# Altium schematic symbol library HK_SCHLIB.SchLib: 347 symbols (part 2 of 8)
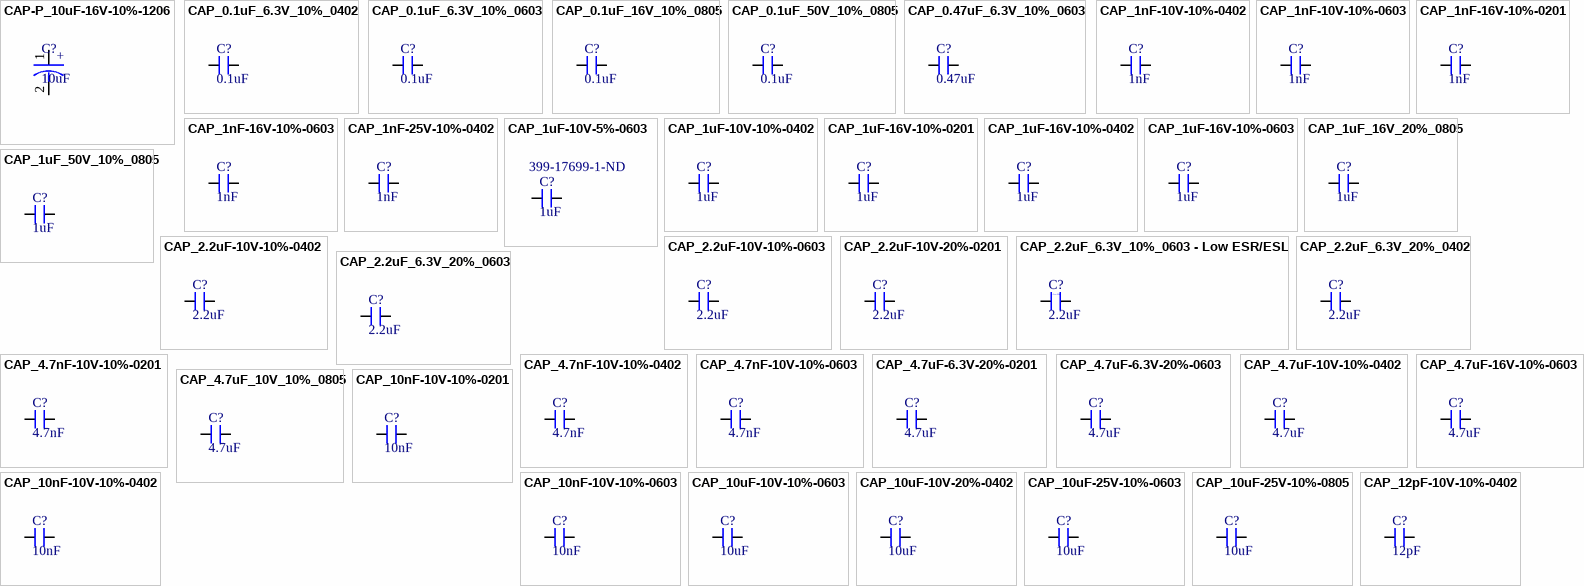
[diagram p16: symbols CAP-P_10uF-16V-10%-1206 to CAP_12pF-10V-10%-0402]

## CAP_2.2uF-10V-10%-0603
designator C?, comment 2.2uF
Multilayer Ceramic Capacitor, 2.2 uF, 16 V, ± 10%, X5R, 0603 [1608 Metric]; Manufacturer: KEMET; Manufacturer Part Number: C0603C225K4PACTU; Voltage Rating: 16V; Dissipation Factor: 5%; Case/Package: 0603; Supplier-1: Digikey; Supplier 1: Digi-Key; Manufacturer 1: KEMET; Manufacturer Part Number 1: C0603C225K4PACTU; RoHS: Yes; Category: Ceramic Capacitors; Stock 1: 107081; Pricing 1: 1=0.12, 10=0.086, 50=0.0488, 100=0.0405, 500=0.0284, 1000=0.02351 (USD); Mount: Surface Mount; Number of Pins: 2; Case Code (Imperial): 0603; Case Code (Metric): 1608; Dielectric Material: Ceramic; Min Operating Temperature: -55°C; Max Operating Temperature: 85°C; Capacitance: 2.2uF; Tolerance: 10%; Voltage Rating (DC): 16V; Packaging: Tape and Reel; Package Quantity: 1; Dielectric: X5R; Termination: SMD/SMT; Voltage: 16V; Series: C; Construction: Flat; Length: 1.6mm; Width: 0.031inch; Height: 0.8mm; Thickness: 0.034inch; Depth: 0.8mm; Radiation Hardening: No; Reach SVHC Compliant: No; Lead Free: Lead Free; RoHS Compliant: Yes; ComponentLink1URL: https://datasheet.ciiva.com/5969/1776083-5969304.pdf?src-supplier=Farnell; ComponentLink1Description: https://datasheet.ciiva.com/5969/1776083-5969304.pdf?src-supplier=Farnell; ComponentLink2URL: https://datasheet.ciiva.com/7823/1776083-7823706.pdf?src-supplier=Element14; ComponentLink2Description: https://datasheet.ciiva.com/7823/1776083-7823706.pdf?src-supplier=Element14
footprint CAP_0603 (Capacitor)
pins: 1, 2

## CAP_2.2uF-10V-20%-0201
designator C?, comment 2.2uF
Multilayer Ceramic Capacitor, 2.2 uF, 10 V, ± 20%, X5R, 0201 [0603 Metric]; Manufacturer: Murata Electronics; Manufacturer Part Number: GRM033R61A225ME47D; Manufacturer 1: Murata; Case/Package: 0201; Supplier-1: Digikey; Supplier 1: Digi-Key; Manufacturer Part Number 1: GRM033R61A225ME47D; RoHS: Yes; Category: Ceramic Capacitors; Stock 1: 1956457; Pricing 1: 1=0.24, 10=0.164, 50=0.0986, 100=0.0833, 500=0.05702, 1000=0.05044, 2500=0.04825, 5000=0.04386 (USD); ComponentLink1URL: https://datasheet.octopart.com/GRM033R61A225ME47D-Murata-datasheet-149522795.pdf?src-supplier=Newark; ComponentLink1Description: https://datasheet.octopart.com/GRM033R61A225ME47D-Murata-datasheet-149522795.pdf?src-supplier=Newark; ComponentLink2URL: http://search.murata.co.jp/Ceramy/image/img/A01X/G101/ENG/GRM033R61A225ME47-01.pdf?src-supplier=Digi-Key; ComponentLink2Description: http://search.murata.co.jp/Ceramy/image/img/A01X/G101/ENG/GRM033R61A225ME47-01.pdf?src-supplier=Digi-Key; ComponentLink3URL: https://www.murata.com/~/media/webrenewal/support/library/catalog/products/capacitor/mlcc/c02e.ashx?la=en-us&src-supplier=Digi-Key; ComponentLink3Description: https://www.murata.com/~/media/webrenewal/support/library/catalog/products/capacitor/mlcc/c02e.ashx?la=en-us&src-supplier=Digi-Key; ComponentLink4URL: https://datasheet.octopart.com/GRM033R61A225ME47D-Murata-datasheet-86568079.pdf?src-supplier=Future+Electronics; ComponentLink4Description: https://datasheet.octopart.com/GRM033R61A225ME47D-Murata-datasheet-86568079.pdf?src-supplier=Future+Electronics
footprint CAP_0201
pins: 1, 2

## CAP_2.2uF_6.3V_10%_0603 - Low ESR/ESL
designator C?, comment 2.2uF
Multilayer Ceramic Capacitor, 2.2 uF, 6.3 V, ± 10%, X7R, 0603 [1608 Metric]; Manufacturer: TDK; Manufacturer Part Number: CGA3E1X7R0J225K080AC; Voltage Rating: 6.3V; Supplier 1: Rs; RoHS: Yes; Category: Ceramic Capacitors; Stock 1: 1; Mount: Surface Mount; Case/Package: 0603; Case Code (Metric): 1608; Case Code (Imperial): 0603; Weight: 7.1E-05oz; Min Operating Temperature: -55°C; Max Operating Temperature: 125°C; Tolerance: 10%; Packaging: Tape and Reel; Capacitance: 2.2uF; Termination: SMD/SMT; Series: CGA; Voltage Rating (DC): 6.3V; Package Quantity: 1; Dielectric: X7R; Length: 1.6mm; Width: 0.031inch; Height: 0.8mm; Thickness: 0.035inch; Depth: 0.8mm; Ratings: AEC-Q200; Lead Free: Lead Free; Reach SVHC Compliant: No; RoHS Compliant: Yes; ComponentLink1URL: https://datasheet.ciiva.com/24219/cga3e1x7r0j225k080ac-265889-24219571.pdf?src-supplier=Mouser; ComponentLink1Description: https://datasheet.ciiva.com/24219/cga3e1x7r0j225k080ac-265889-24219571.pdf?src-supplier=Mouser; ComponentLink2URL: https://datasheet.ciiva.com/28576/1796654-28576764.pdf?src-supplier=Element14; ComponentLink2Description: https://datasheet.ciiva.com/28576/1796654-28576764.pdf?src-supplier=Element14; ComponentLink3URL: https://datasheet.ciiva.com/22718/1796654-22718047.pdf?src-supplier=Element14; ComponentLink3Description: https://datasheet.ciiva.com/22718/1796654-22718047.pdf?src-supplier=Element14; Supplier 2: Digi-Key; Manufacturer 2: TDK; Manufacturer Part Number 2: CGA3E1X7R0J225K080AC; Stock 2: 2496211; Pricing 2: 1=0.22, 10=0.152, 50=0.0908, 100=0.0768, 500=0.05252, 1000=0.04646 (USD)
footprint CAP_0603 (Chip Capacitor 0603, 2-Leads, Body 1.68x0.88mm, IPC Medium Density)
pins: 1, 2
text: Low ESR

## CAP_2.2uF_6.3V_20%_0402
designator C?, comment 2.2uF
Multilayer Ceramic Capacitor, 2.2 uF, 6.3 V, ± 20%, X5R, 0402 [1005 Metric]; Manufacturer 1: KEMET; Manufacturer Part Number 1: C0402C225M9PACTU; Voltage Rating (DC): 6.3V; Dissipation Factor: 5%; ComponentLink1URL: https://datasheet.ciiva.com/28614/1918694-28614750.pdf?src-supplier=Element14; ComponentLink1Description: https://datasheet.ciiva.com/28614/1918694-28614750.pdf?src-supplier=Element14; ComponentLink2URL: https://datasheet.ciiva.com/18192/getdatasheetpartid-496832-18192487.pdf?src-supplier=Verical; ComponentLink2Description: https://datasheet.ciiva.com/18192/getdatasheetpartid-496832-18192487.pdf?src-supplier=Verical; ComponentLink3URL: http://www.farnell.com/datasheets/2739681.pdf?src-supplier=Farnell; ComponentLink3Description: http://www.farnell.com/datasheets/2739681.pdf?src-supplier=Farnell; ComponentLink4URL: http://www.farnell.com/datasheets/40889.pdf?src-supplier=Farnell; ComponentLink4Description: http://www.farnell.com/datasheets/40889.pdf?src-supplier=Farnell; ComponentLink5URL: http://components.arrow.com/part/dataview/42932920S8408814N7429?src-supplier=Arrow+Electronics; ComponentLink5Description: http://components.arrow.com/part/dataview/42932920S8408814N7429?src-supplier=Arrow+Electronics; ComponentLink6URL: http://capacitoredge.kemet.com/capedge2/DataSheet?pn=C0402C225M9PAC7867&src-supplier=Avnet; ComponentLink6Description: http://capacitoredge.kemet.com/capedge2/DataSheet?pn=C0402C225M9PAC7867&src-supplier=Avnet; ComponentLink7URL: http://www.mouser.com/ds/2/212/KEM_C1006_X5R_SMD-1103249.pdf?src-supplier=Mouser; ComponentLink7Description: http://www.mouser.com/ds/2/212/KEM_C1006_X5R_SMD-1103249.pdf?src-supplier=Mouser; ComponentLink8URL: https://www.alliedelec.com/m/d/f3c02ddb98afa3dd1adcb801109671e9.pdf?src-supplier=Allied+Electronics; ComponentLink8Description: https://www.alliedelec.com/m/d/f3c02ddb98afa3dd1adcb801109671e9.pdf?src-supplier=Allied+Electronics; ComponentLink9URL: https://api.kemet.com/component-edge/download/datasheet/C0402C225M9PACTU.pdf?src-supplier=Digi-Key; ComponentLink9Description: https://api.kemet.com/component-edge/download/datasheet/C0402C225M9PACTU.pdf?src-supplier=Digi-Key; ComponentLink10URL: http://www.farnell.com/datasheets/2739681.pdf?src-supplier=Newark; ComponentLink10Description: http://www.farnell.com/datasheets/2739681.pdf?src-supplier=Newark; ComponentLink11URL: http://www.farnell.com/datasheets/40889.pdf?src-supplier=Element14; ComponentLink11Description: http://www.farnell.com/datasheets/40889.pdf?src-supplier=Element14; ComponentLink12URL: https://datasheet.octopart.com/C0402C225M9PAC-TU-Kemet-datasheet-5314969.pdf?src-supplier=Element14; ComponentLink12Description: https://datasheet.octopart.com/C0402C225M9PAC-TU-Kemet-datasheet-5314969.pdf?src-supplier=Element14; ComponentLink13URL: http://www.farnell.com/datasheets/2119977.pdf?src-supplier=Element14; ComponentLink13Description: http://www.farnell.com/datasheets/2119977.pdf?src-supplier=Element14; ComponentLink14URL: https://www.verical.com/server-webapp/html/getDatasheet?partID=152013&src-supplier=Verical; ComponentLink14Description: https://www.verical.com/server-webapp/html/getDatasheet?partID=152013&src-supplier=Verical; Supplier 1: Digi-Key; RoHS: Yes; Category: Ceramic Capacitors; Stock 1: 339728; Pricing 1: 1=0.23, 10=0.158, 50=0.1056, 100=0.0898, 500=0.06336, 1000=0.05544, 2500=0.0528, 5000=0.04884 (USD); Mount: Surface Mount,PCB; Case/Package: 0402; Number of Pins: 2; Case Code (Imperial): 0402; Case Code (Metric): 1005; Min Operating Temperature: -55°C; Max Operating Temperature: 85°C; Tolerance: 20%; Capacitance: 2.2uF; Packaging: Tape and Reel; Dielectric: X5R; Termination: SMD/SMT; Voltage Rating: 6.3V; Series: SMD Comm X5R; Package Quantity: 10000; Construction: Flat; Length: 1mm; Width: 0.5mm; Height: 0.5mm; Depth: 0.5mm; Thickness: 0.022inch; Radiation Hardening: No; Lead Free: Lead Free; Reach SVHC Compliant: No; RoHS Compliant: Yes; Supplier Part Number 1: 399-C0402C225M9PAC7867CT-ND
footprint CAP_0402
pins: 1, 2

## CAP_2.2uF_6.3V_20%_0603
designator C?, comment 2.2uF
Cap Ceramic 2.2uF 6.3V X5R 20% SMD 0603 85°C Paper T/R; Manufacturer: KEMET; Manufacturer Part Number: C0603C225M9PACTU; Supplier 1: Mouser; RoHS: Yes; Category: Ceramic Capacitors; Stock 1: 12100; Pricing 1: 1=0.14, 10=0.1, 50=0.1, 100=0.056, 1000=0.039, 10000=0.027 (USD); ComponentLink1URL: http://www.mouser.com/ds/2/212/KEM_C1006_X5R_SMD-1103249.pdf?src-supplier=Mouser; ComponentLink1Description: http://www.mouser.com/ds/2/212/KEM_C1006_X5R_SMD-1103249.pdf?src-supplier=Mouser; ComponentLink2URL: http://www.farnell.com/datasheets/2749516.pdf?src-supplier=Farnell; ComponentLink2Description: http://www.farnell.com/datasheets/2749516.pdf?src-supplier=Farnell; ComponentLink3URL: http://components.arrow.com/part/dataview/40911824S6878393N7429?src-supplier=Arrow+Electronics; ComponentLink3Description: http://components.arrow.com/part/dataview/40911824S6878393N7429?src-supplier=Arrow+Electronics; ComponentLink4URL: http://www.kemet.com/docfinder?Partnumber=C0603C225M9PACTU&src-supplier=Digi-Key; ComponentLink4Description: http://www.kemet.com/docfinder?Partnumber=C0603C225M9PACTU&src-supplier=Digi-Key; ComponentLink5URL: http://www.farnell.com/datasheets/2749516.pdf?src-supplier=Newark; ComponentLink5Description: http://www.farnell.com/datasheets/2749516.pdf?src-supplier=Newark; ComponentLink6URL: https://datasheet.octopart.com/C0603C225M9PACTU-KEMET-datasheet-153476653.pdf?src-supplier=Electro+Sonic; ComponentLink6Description: https://datasheet.octopart.com/C0603C225M9PACTU-KEMET-datasheet-153476653.pdf?src-supplier=Electro+Sonic; Supplier 2: Mouser; Manufacturer 2: KEMET; Manufacturer Part Number 2: C0603C225M9PACTU; Stock 2: 12100; Pricing 2: 1=0.17, 10=0.074, 50=0.074, 100=0.043, 1000=0.036, 10000=0.027 (USD); Supplier 3: Mouser; Manufacturer 3: KEMET; Manufacturer Part Number 3: C0603C225M9PACTU; Stock 3: 12100; Pricing 3: 1=0.17, 10=0.074, 50=0.074, 100=0.043, 1000=0.036, 10000=0.027 (USD); Supplier Part Number 3: 80-C0603C225M9P
footprint CAP_0603 (Chip Capacitor 0603, 2-Leads, Body 1.68x0.88mm, IPC Medium Density)
pins: 1, 2

## CAP_4.7nF-10V-10%-0201
designator C?, comment 4.7nF
Capacitor SMD Ceramic 0201 Case 10Vdc X7R Dielectric 4700pF ±10% ø7T/R"; Manufacturer: AVX Corporation; Manufacturer Part Number: 0201ZC472KAT2A; Manufacturer 1: Kyocera AVX; Case/Package: 0201; Supplier-1: Digikey; Supplier 1: Mouser; Manufacturer Part Number 1: 0201ZC472KAT2A; RoHS: Yes; Category: Ceramic Capacitors; Stock 1: 68403; Pricing 1: 1=0.1, 10=0.032, 50=0.032, 100=0.015, 1000=0.01, 10000=0.01 (USD); ComponentLink1URL: https://datasheet.ciiva.com/11788/0900766b80dc2409-11788513.pdf?src-supplier=Rs; ComponentLink1Description: https://datasheet.ciiva.com/11788/0900766b80dc2409-11788513.pdf?src-supplier=Rs; ComponentLink2URL: https://datasheet.ciiva.com/5433/cx7r-218113-5433338.pdf?src-supplier=Mouser; ComponentLink2Description: https://datasheet.ciiva.com/5433/cx7r-218113-5433338.pdf?src-supplier=Mouser; ComponentLink3URL: https://datasheet.ciiva.com/7693/1679506-7693437.pdf?src-supplier=Element14; ComponentLink3Description: https://datasheet.ciiva.com/7693/1679506-7693437.pdf?src-supplier=Element14; ComponentLink4URL: https://datasheet.ciiva.com/1123/84526-1123251.pdf?src-supplier=Element14; ComponentLink4Description: https://datasheet.ciiva.com/1123/84526-1123251.pdf?src-supplier=Element14; ComponentLink5URL: https://datasheet.ciiva.com/1123/84526-1123252.pdf?src-supplier=Element14; ComponentLink5Description: https://datasheet.ciiva.com/1123/84526-1123252.pdf?src-supplier=Element14; Supplier Part Number 1: 581-0201ZC472KAT2A
footprint CAP_0201
pins: 1, 2

## CAP_4.7nF-10V-10%-0402
designator C?, comment 4.7nF
Super Low Distortion Multilayer Ceramic Capacitors, 10V, 4700 pF, ± 10 %, 0402, RoHS; Manufacturer: Taiyo Yuden; Manufacturer Part Number: LMK105SD472KV-F; Case/Package: 0402; Supplier-1: Digikey; Supplier 1: Digi-Key; Manufacturer 1: Taiyo Yuden; Manufacturer Part Number 1: LMK105SD472KV-F; RoHS: Yes; Category: Ceramic Capacitors; Stock 1: 18613; Pricing 1: 1=0.3, 10=0.207, 50=0.145, 100=0.1242, 500=0.09318, 1000=0.07868, 2500=0.07454, 5000=0.0704 (USD); ComponentLink1URL: https://datasheet.ciiva.com/25612/0900766b8109988b-25612786.pdf?src-supplier=Rs; ComponentLink1Description: https://datasheet.ciiva.com/25612/0900766b8109988b-25612786.pdf?src-supplier=Rs; ComponentLink2URL: https://datasheet.ciiva.com/31394/1760254-31394326.pdf?src-supplier=Farnell; ComponentLink2Description: https://datasheet.ciiva.com/31394/1760254-31394326.pdf?src-supplier=Farnell; ComponentLink3URL: https://datasheet.ciiva.com/138/lmk105sd472kv-f-ss-138081.pdf?src-supplier=Digi-Key; ComponentLink3Description: https://datasheet.ciiva.com/138/lmk105sd472kv-f-ss-138081.pdf?src-supplier=Digi-Key; ComponentLink4URL: https://datasheet.ciiva.com/138/mlcc07-e-138082.pdf?src-supplier=Digi-Key; ComponentLink4Description: https://datasheet.ciiva.com/138/mlcc07-e-138082.pdf?src-supplier=Digi-Key; ComponentLink5URL: https://datasheet.ciiva.com/138/mlcc07-e-138083.pdf?src-supplier=Digi-Key; ComponentLink5Description: https://datasheet.ciiva.com/138/mlcc07-e-138083.pdf?src-supplier=Digi-Key; Supplier Part Number 1: 587-1068-1-ND
footprint CAP_0402 (Capacitor)
pins: 1, 2

## CAP_4.7nF-10V-10%-0603
designator C?, comment 4.7nF
Multilayer Ceramic Capacitor, 4700 pF, 10 V, ± 10%, X7R, 0603 [1608 Metric]; Manufacturer: KEMET; Manufacturer Part Number: C0603C472K8RACTU; Voltage Rating: 10V; Case/Package: 0603; Supplier-1: Digikey; Supplier 1: Digi-Key; Manufacturer 1: KEMET; Manufacturer Part Number 1: C0603C472K8RACTU; RoHS: Yes; Category: Ceramic Capacitors; Stock 1: 19320; Pricing 1: 1=0.1, 10=0.051, 50=0.0276, 100=0.0226, 500=0.01612, 1000=0.01267 (USD); Mount: Surface Mount; Case Code (Metric): 1608; Case Code (Imperial): 0603; Contact Plating: Tin,Matte; Dielectric Material: Ceramic; Min Operating Temperature: -55°C; Max Operating Temperature: 125°C; Capacitance: 4.7nF; Tolerance: 10%; Packaging: Tape and Reel; Package Quantity: 1; Voltage Rating (DC): 10V; Dielectric: X7R; Termination: SMD/SMT; Series: C; Construction: Flat; Length: 1.6mm; Width: 0.031inch; Thickness: 0.034inch; Depth: 0.8mm; Radiation Hardening: No; Reach SVHC Compliant: No; RoHS Compliant: Yes; ComponentLink1URL: http://components.arrow.com/part/dataview/3445604S8609586N7429?src-supplier=Arrow+Electronics; ComponentLink1Description: http://components.arrow.com/part/dataview/3445604S8609586N7429?src-supplier=Arrow+Electronics; ComponentLink2URL: http://www.farnell.com/datasheets/2746290.pdf?src-supplier=Farnell; ComponentLink2Description: http://www.farnell.com/datasheets/2746290.pdf?src-supplier=Farnell; ComponentLink3URL: https://api.kemet.com/component-edge/download/datasheet/C0603C472K8RACTU.pdf?src-supplier=Digi-Key; ComponentLink3Description: https://api.kemet.com/component-edge/download/datasheet/C0603C472K8RACTU.pdf?src-supplier=Digi-Key; ComponentLink4URL: http://datasheet.octopart.com/C0603C472K8RACTU-KEMET-datasheet-157246124.pdf?src-supplier=Mouser; ComponentLink4Description: http://datasheet.octopart.com/C0603C472K8RACTU-KEMET-datasheet-157246124.pdf?src-supplier=Mouser; ComponentLink5URL: http://datasheet.octopart.com/C0603C472K8RACTU-KEMET-datasheet-157246124.pdf?src-supplier=Digi-Key; ComponentLink5Description: http://datasheet.octopart.com/C0603C472K8RACTU-KEMET-datasheet-157246124.pdf?src-supplier=Digi-Key; ComponentLink6URL: http://www.farnell.com/datasheets/2746290.pdf?src-supplier=Newark; ComponentLink6Description: http://www.farnell.com/datasheets/2746290.pdf?src-supplier=Newark; ComponentLink7URL: https://datasheet.octopart.com/C0603C472K8RACTU-Kemet-datasheet-62307647.pdf?src-supplier=Element14; ComponentLink7Description: https://datasheet.octopart.com/C0603C472K8RACTU-Kemet-datasheet-62307647.pdf?src-supplier=Element14; ComponentLink8URL: http://capacitoredge.kemet.com/capedge2/DataSheet?pn=C0603C472K8RAC7867&src-supplier=Avnet; ComponentLink8Description: http://capacitoredge.kemet.com/capedge2/DataSheet?pn=C0603C472K8RAC7867&src-supplier=Avnet; ComponentLink9URL: http://datasheet.octopart.com/C0603C472K8RACTU-KEMET-datasheet-157246124.pdf?src-supplier=Verical; ComponentLink9Description: http://datasheet.octopart.com/C0603C472K8RACTU-KEMET-datasheet-157246124.pdf?src-supplier=Verical; ComponentLink10URL: http://datasheet.octopart.com/C0603C472K8RACTU-KEMET-datasheet-157246124.pdf?src-supplier=Onlinecomponents.com; ComponentLink10Description: http://datasheet.octopart.com/C0603C472K8RACTU-KEMET-datasheet-157246124.pdf?src-supplier=Onlinecomponents.com; ComponentLink11URL: http://datasheet.octopart.com/C0603C472K8RACTU-KEMET-datasheet-157246124.pdf?src-supplier=Avnet; ComponentLink11Description: http://datasheet.octopart.com/C0603C472K8RACTU-KEMET-datasheet-157246124.pdf?src-supplier=Avnet; ComponentLink12URL: https://datasheet.octopart.com/C0603C472K8RACTU-KEMET-datasheet-86780211.pdf?src-supplier=Newark; ComponentLink12Description: https://datasheet.octopart.com/C0603C472K8RACTU-KEMET-datasheet-86780211.pdf?src-supplier=Newark; ComponentLink13URL: http://datasheet.octopart.com/C0603C472K8RACTU-KEMET-datasheet-157246124.pdf?src-supplier=TTI; ComponentLink13Description: http://datasheet.octopart.com/C0603C472K8RACTU-KEMET-datasheet-157246124.pdf?src-supplier=TTI; ComponentLink14URL: https://datasheet.octopart.com/C0603C472K8RACTU-KEMET-datasheet-136484000.pdf?src-supplier=TME; ComponentLink14Description: https://datasheet.octopart.com/C0603C472K8RACTU-KEMET-datasheet-136484000.pdf?src-supplier=TME; ComponentLink15URL: https://datasheet.octopart.com/C0603C472K8RACTU-KEMET-datasheet-157246124.pdf?src-supplier=Electro+Sonic; ComponentLink15Description: https://datasheet.octopart.com/C0603C472K8RACTU-KEMET-datasheet-157246124.pdf?src-supplier=Electro+Sonic; Supplier Part Number 1: 399-C0603C472K8RAC7867CT-ND
footprint CAP_0603 (Capacitor)
pins: 1, 2

## CAP_4.7uF-6.3V-20%-0201
designator C?, comment 4.7uF
Multilayer Ceramic Capacitor, 4.7 uF, 6.3 V, ± 20%, X5R, 0201 [0603 Metric]; Manufacturer: Murata Electronics; Manufacturer Part Number: GRM035R60J475ME15D; Manufacturer 1: Murata; Voltage Rating: 6.3V; Case/Package: 0201; Supplier-1: Digikey; Supplier 1: Digi-Key; Manufacturer Part Number 1: GRM035R60J475ME15D; RoHS: Yes; Category: Ceramic Capacitors; Stock 1: 408; Pricing 1: 1=0.22, 10=0.151, 50=0.1004, 100=0.0854, 500=0.06028, 1000=0.05274, 2500=0.05023, 5000=0.04646 (USD); Mount: Surface Mount; Case Code (Metric): 0603; Case Code (Imperial): 0201; Min Operating Temperature: -55°C; Max Operating Temperature: 85°C; Packaging: Cut Tape; Series: GRM; Capacitance: 4.7uF; Tolerance: 20%; Voltage Rating (DC): 6.3V; Dielectric: X5R; Length: 0.024inch; Width: 0.012inch; Thickness: 0.022inch; RoHS Compliant: Yes; ComponentLink1URL: http://www.farnell.com/datasheets/2853106.pdf?src-supplier=Farnell; ComponentLink1Description: http://www.farnell.com/datasheets/2853106.pdf?src-supplier=Farnell; ComponentLink2URL: https://datasheet.octopart.com/GRM035R60J475ME15D-Murata-datasheet-140089765.pdf?src-supplier=Future+Electronics; ComponentLink2Description: https://datasheet.octopart.com/GRM035R60J475ME15D-Murata-datasheet-140089765.pdf?src-supplier=Future+Electronics; ComponentLink3URL: http://www.farnell.com/datasheets/2853106.pdf?src-supplier=Newark; ComponentLink3Description: http://www.farnell.com/datasheets/2853106.pdf?src-supplier=Newark; ComponentLink4URL: https://datasheet.octopart.com/GRM035R60J475ME15D-Murata-datasheet-149522819.pdf?src-supplier=Farnell; ComponentLink4Description: https://datasheet.octopart.com/GRM035R60J475ME15D-Murata-datasheet-149522819.pdf?src-supplier=Farnell; ComponentLink5URL: http://search.murata.co.jp/Ceramy/image/img/A01X/G101/ENG/GRM035R60J475ME15-01.pdf?src-supplier=Digi-Key; ComponentLink5Description: http://search.murata.co.jp/Ceramy/image/img/A01X/G101/ENG/GRM035R60J475ME15-01.pdf?src-supplier=Digi-Key; ComponentLink6URL: https://datasheet.octopart.com/GRM035R60J475ME15D-Murata-datasheet-165579666.pdf?src-supplier=TME; ComponentLink6Description: https://datasheet.octopart.com/GRM035R60J475ME15D-Murata-datasheet-165579666.pdf?src-supplier=TME; Supplier Part Number 1: 490-13230-1-ND
footprint CAP_0201
pins: 1, 2

## CAP_4.7uF-6.3V-20%-0603
designator C?, comment 4.7uF
Ceramic Capacitor, Multilayer, Ceramic, 6.3V, 20% +Tol, 20% -Tol, X5R, 15% TC, 4.7uF, Surface Mount, 0603; Manufacturer: KEMET; Manufacturer Part Number: C0603C475M9PACTU; Dissipation Factor: 5%; Supplier 1: Mouser; RoHS: Yes; Category: Ceramic Capacitors; Stock 1: 43893; Pricing 1: 1=0.15, 10=0.088, 50=0.088, 100=0.057, 1000=0.057, 10000=0.046 (USD); Mount: Surface Mount; Case/Package: 0603; Case Code (Imperial): 0603; Case Code (Metric): 1608; Dielectric Material: Ceramic; Min Operating Temperature: -55°C; Max Operating Temperature: 85°C; Tolerance: 20%; Capacitance: 4.7uF; Voltage Rating: 6.3V; Packaging: Tape and Reel; Dielectric: X5R; Termination: SMD/SMT; Series: SMD Comm X5R; Package Quantity: 4000; Voltage Rating (DC): 6.3V; Construction: Flat; Length: 1.6mm; Width: 0.8mm; Height: 0.8mm; Depth: 0.8mm; Lead Pitch: 0.7mm; Thickness: 0.034inch; Radiation Hardening: No; Reach SVHC Compliant: No; Lead Free: Lead Free; RoHS Compliant: Yes; ComponentLink1URL: http://components.arrow.com/part/dataview/42933002S8993962N7429?src-supplier=Arrow+Electronics; ComponentLink1Description: http://components.arrow.com/part/dataview/42933002S8993962N7429?src-supplier=Arrow+Electronics; ComponentLink2URL: http://www.farnell.com/datasheets/2746647.pdf?src-supplier=Farnell; ComponentLink2Description: http://www.farnell.com/datasheets/2746647.pdf?src-supplier=Farnell; ComponentLink3URL: http://www.mouser.com/ds/2/212/KEM_C1006_X5R_SMD-1103249.pdf?src-supplier=Mouser; ComponentLink3Description: http://www.mouser.com/ds/2/212/KEM_C1006_X5R_SMD-1103249.pdf?src-supplier=Mouser; ComponentLink4URL: http://datasheet.octopart.com/C0603C475M9PACTU-KEMET-datasheet-153476653.pdf?src-supplier=Avnet; ComponentLink4Description: http://datasheet.octopart.com/C0603C475M9PACTU-KEMET-datasheet-153476653.pdf?src-supplier=Avnet; ComponentLink5URL: http://datasheet.octopart.com/C0603C475M9PACTU-KEMET-datasheet-153476653.pdf?src-supplier=Onlinecomponents.com; ComponentLink5Description: http://datasheet.octopart.com/C0603C475M9PACTU-KEMET-datasheet-153476653.pdf?src-supplier=Onlinecomponents.com; ComponentLink6URL: https://datasheet.octopart.com/C0603C475M9PACTU-Kemet-datasheet-17019119.pdf?src-supplier=Newark; ComponentLink6Description: https://datasheet.octopart.com/C0603C475M9PACTU-Kemet-datasheet-17019119.pdf?src-supplier=Newark; ComponentLink7URL: http://datasheet.octopart.com/C0603C475M9PACTU-KEMET-datasheet-153476653.pdf?src-supplier=Digi-Key; ComponentLink7Description: http://datasheet.octopart.com/C0603C475M9PACTU-KEMET-datasheet-153476653.pdf?src-supplier=Digi-Key; ComponentLink8URL: https://api.kemet.com/component-edge/download/datasheet/C0603C475M9PACTU.pdf?src-supplier=Digi-Key; ComponentLink8Description: https://api.kemet.com/component-edge/download/datasheet/C0603C475M9PACTU.pdf?src-supplier=Digi-Key; ComponentLink9URL: http://www.farnell.com/datasheets/2746647.pdf?src-supplier=Newark; ComponentLink9Description: http://www.farnell.com/datasheets/2746647.pdf?src-supplier=Newark; ComponentLink10URL: https://datasheet.octopart.com/C0603C475M9PACTU-Kemet-datasheet-62307650.pdf?src-supplier=Element14; ComponentLink10Description: https://datasheet.octopart.com/C0603C475M9PACTU-Kemet-datasheet-62307650.pdf?src-supplier=Element14; ComponentLink11URL: https://datasheet.octopart.com/C0603C475M9PACTU-KEMET-datasheet-149522171.pdf?src-supplier=Farnell; ComponentLink11Description: https://datasheet.octopart.com/C0603C475M9PACTU-KEMET-datasheet-149522171.pdf?src-supplier=Farnell; ComponentLink12URL: http://www.farnell.com/datasheets/1791935.pdf?src-supplier=Newark; ComponentLink12Description: http://www.farnell.com/datasheets/1791935.pdf?src-supplier=Newark; ComponentLink13URL: http://datasheet.octopart.com/C0603C475M9PACTU-KEMET-datasheet-153476653.pdf?src-supplier=Quest; ComponentLink13Description: http://datasheet.octopart.com/C0603C475M9PACTU-KEMET-datasheet-153476653.pdf?src-supplier=Quest; ComponentLink14URL: https://datasheet.octopart.com/C0603C475M9PACTU-KEMET-datasheet-153476653.pdf?src-supplier=Electro+Sonic; ComponentLink14Description: https://datasheet.octopart.com/C0603C475M9PACTU-KEMET-datasheet-153476653.pdf?src-supplier=Electro+Sonic; Supplier 2: Digi-Key; Manufacturer 2: KEMET; Manufacturer Part Number 2: C0603C475M9PACTU; Stock 2: 122167; Pricing 2: 1=0.63, 10=0.462, 50=0.3696, 100=0.3168, 500=0.2508, 1000=0.2112 (USD); Supplier Part Number 2: 399-C0603C475M9PAC7867CT-ND
footprint CAP_0603 (Chip Capacitor 0603, 2-Leads, Body 1.68x0.88mm, IPC Medium Density)
pins: 1, 2

## CAP_4.7uF-10V-10%-0402
designator C?, comment 4.7uF
Cap Ceramic 4.7uF 10V X5R 10% SMD 0402 85°C Cardboard T/R; Manufacturer: Samsung Electro-Mechanics; Manufacturer Part Number: CL05A475KP5NRNC; Manufacturer 1: Samsung; Case/Package: 0402; Supplier-1: Digikey; Supplier 1: Digi-Key; Manufacturer Part Number 1: CL05A475KP5NRNC; RoHS: Yes; Category: Ceramic Capacitors; Stock 1: 1306599; Pricing 1: 1=0.28, 10=0.193, 50=0.129, 100=0.1096, 500=0.0774, 1000=0.06772, 2500=0.0645, 5000=0.05966 (USD); Mount: Surface Mount; Case Code (Metric): 1005; Case Code (Imperial): 0402; Material: Ceramic; Min Operating Temperature: -55°C; Max Operating Temperature: 85°C; Tolerance: 10%; Packaging: Tape and Reel; Capacitance: 4.7uF; Package Quantity: 1; Voltage Rating: 10V; Dielectric: X5R; Series: CL; Construction: Flat; Length: 1mm; Width: 0.02inch; Height: 0.5mm; Thickness: 0.022inch; Depth: 0.5mm; Radiation Hardening: No; Lead Free: Lead Free; RoHS Compliant: Yes; ComponentLink1URL: https://datasheet.ciiva.com/25724/cl05a475kp5nrnc-25724404.pdf?src-supplier=Digi-Key; ComponentLink1Description: https://datasheet.ciiva.com/25724/cl05a475kp5nrnc-25724404.pdf?src-supplier=Digi-Key; ComponentLink2URL: https://datasheet.ciiva.com/29198/458873-da-01-en-vs-kondensator-0402-29198304.pdf?src-supplier=Conrad; ComponentLink2Description: https://datasheet.ciiva.com/29198/458873-da-01-en-vs-kondensator-0402-29198304.pdf?src-supplier=Conrad; Supplier Part Number 1: 1276-1480-1-ND
footprint CAP_0402 (Capacitor)
pins: 1, 2

## CAP_4.7uF-16V-10%-0603
designator C?, comment 4.7uF
GRM Series 16 V 4.7 µF 0603 Surface Mount Multilayer Ceramic Chip Capacitor; Manufacturer: Murata Electronics; Manufacturer Part Number: GRM188R61C475KAAJD; Manufacturer 1: Murata; Case/Package: 0603; Supplier-1: Digikey; Supplier 1: Mouser; Manufacturer Part Number 1: GRM188R61C475KAAJD; RoHS: Yes; Category: Ceramic Capacitors; Stock 1: 707885; Pricing 1: 1=0.28, 10=0.194, 50=0.194, 100=0.117, 1000=0.074, 10000=0.06 (USD); ComponentLink1URL: https://datasheet.ciiva.com/14813/595grm188r61c475kaaj23-14813668.pdf?src-supplier=Arrow+Electronics; ComponentLink1Description: https://datasheet.ciiva.com/14813/595grm188r61c475kaaj23-14813668.pdf?src-supplier=Arrow+Electronics; Supplier Part Number 1: 81-GRM188R61C475KAJD
footprint CAP_0603 (Capacitor)
pins: 1, 2

## CAP_4.7uF_10V_10%_0805
designator C?, comment 4.7uF
Multilayer Ceramic Capacitor, 4.7 uF, 10 V, ± 10%, X5R, 0805 [2012 Metric]; Manufacturer: KEMET; Manufacturer Part Number: C0805C475K8PACTU; Voltage Rating (DC): 10V; Dissipation Factor: 5%; Supplier 1: Mouser; RoHS: Yes; Category: Ceramic Capacitors; Stock 1: 447144; Pricing 1: 1=0.19, 10=0.094, 50=0.094, 100=0.055, 1000=0.04, 10000=0.031 (USD); ComponentLink1URL: https://datasheet.ciiva.com/6126/40889-6126699.pdf?src-supplier=Farnell; ComponentLink1Description: https://datasheet.ciiva.com/6126/40889-6126699.pdf?src-supplier=Farnell; ComponentLink2URL: https://datasheet.ciiva.com/28614/1918694-28614763.pdf?src-supplier=Element14; ComponentLink2Description: https://datasheet.ciiva.com/28614/1918694-28614763.pdf?src-supplier=Element14; ComponentLink3URL: https://datasheet.ciiva.com/46385/1791935-46385676.pdf?src-supplier=Element14; ComponentLink3Description: https://datasheet.ciiva.com/46385/1791935-46385676.pdf?src-supplier=Element14; ComponentLink4URL: https://datasheet.ciiva.com/7842/40889-7842616.pdf?src-supplier=Element14; ComponentLink4Description: https://datasheet.ciiva.com/7842/40889-7842616.pdf?src-supplier=Element14; ComponentLink5URL: https://datasheet.ciiva.com/18193/getdatasheetpartid-179373-18193909.pdf?src-supplier=Verical; ComponentLink5Description: https://datasheet.ciiva.com/18193/getdatasheetpartid-179373-18193909.pdf?src-supplier=Verical; Supplier 2: Digi-Key; Manufacturer 2: KEMET; Manufacturer Part Number 2: C0805C475K8PACTU; Stock 2: 460280; Pricing 2: 1=0.22, 10=0.149, 50=0.0894, 100=0.0755, 500=0.05166, 1000=0.04571 (USD); Mount: Surface Mount; Case/Package: 0805; Number of Pins: 2; Dielectric Material: Ceramic; Case Code (Imperial): 0805; Case Code (Metric): 2012; Min Operating Temperature: -55°C; Max Operating Temperature: 85°C; Tolerance: 10%; Packaging: Tape and Reel; Capacitance: 4.7uF; Dielectric: X5R; Package Quantity: 2500; Voltage Rating: 10V; Termination: SMD/SMT; Series: SMD Comm X5R; Construction: Flat; Length: 2mm; Width: 1.2mm; Height: 1.25mm; Depth: 1.25mm; Lead Pitch: 0.75mm; Radiation Hardening: No; Lead Free: Lead Free; Reach SVHC Compliant: No; RoHS Compliant: Yes; Supplier Part Number 2: 399-C0805C475K8PAC7800CT-ND
footprint CAP_0805 (Chip Capacitor, 2-Leads, Body 2.10x1.35mm, IPC Medium Density)
pins: 1, 2

## CAP_10nF-10V-10%-0201
designator C?, comment 10nF
Multilayer Ceramic Capacitor, 0.01 uF, 10 V, ± 10%, X7R, 0201 [0603 Metric]; Manufacturer: TDK Corporation; Manufacturer Part Number: CGA1A2X7R1A103K030BA; Manufacturer 1: TDK; Voltage Rating: 10V; Case/Package: 0201; Supplier-1: Digikey; Supplier 1: Digi-Key; Manufacturer Part Number 1: CGA1A2X7R1A103K030BA; RoHS: Yes; Category: Ceramic Capacitors; Stock 1: 562393; Pricing 1: 1=0.1, 10=0.072, 50=0.0394, 100=0.0322, 500=0.02298, 1000=0.01805, 2500=0.01641, 5000=0.0151 (USD); Mount: Surface Mount; Case Code (Metric): 0603; Case Code (Imperial): 0201; Weight: 6E-06oz; Min Operating Temperature: -55°C; Max Operating Temperature: 125°C; Package Quantity: 15000; Packaging: Tape and Reel; Capacitance: 10nF; Tolerance: 10%; Dielectric: X7R; Termination: SMD/SMT; Voltage Rating (DC): 10V; Series: CGA; Length: 0.6mm; Width: 0.3mm; Height: 0.3mm; Ratings: AEC-Q200; RoHS Compliant: Yes; ComponentLink1URL: http://www.mouser.com/ds/2/400/lcc_automotive_general_en-843974.pdf?src-supplier=Mouser; ComponentLink1Description: http://www.mouser.com/ds/2/400/lcc_automotive_general_en-843974.pdf?src-supplier=Mouser; ComponentLink2URL: https://4donline.ihs.com/images/VipMasterIC/IC/TDKC/TDKC-S-A0003616427/TDKC-S-A0003616427-1.pdf?hkey=52A5661711E402568146F3353EA87419&src-supplier=Farnell; ComponentLink2Description: https://4donline.ihs.com/images/VipMasterIC/IC/TDKC/TDKC-S-A0003616427/TDKC-S-A0003616427-1.pdf?hkey=52A5661711E402568146F3353EA87419&src-supplier=Farnell; ComponentLink3URL: https://product.tdk.com/info/en/documents/chara_sheet/CGA1A2X7R1A103K030BA.pdf?src-supplier=Digi-Key; ComponentLink3Description: https://product.tdk.com/info/en/documents/chara_sheet/CGA1A2X7R1A103K030BA.pdf?src-supplier=Digi-Key; ComponentLink4URL: https://datasheet.octopart.com/CGA1A2X7R1A103K030BA-TDK-datasheet-43366117.pdf?src-supplier=Future+Electronics; ComponentLink4Description: https://datasheet.octopart.com/CGA1A2X7R1A103K030BA-TDK-datasheet-43366117.pdf?src-supplier=Future+Electronics; ComponentLink5URL: http://product.tdk.com/capacitor/mlcc/en/documents/mlcc_automotive_general_en.pdf?src-supplier=Avnet; ComponentLink5Description: http://product.tdk.com/capacitor/mlcc/en/documents/mlcc_automotive_general_en.pdf?src-supplier=Avnet; ComponentLink6URL: https://datasheet.octopart.com/CGA1A2X7R1A103K030BA-TDK-datasheet-165583812.pdf?src-supplier=TME; ComponentLink6Description: https://datasheet.octopart.com/CGA1A2X7R1A103K030BA-TDK-datasheet-165583812.pdf?src-supplier=TME; Supplier Part Number 1: 445-12059-1-ND
footprint CAP_0201
pins: 1, 2

## CAP_10nF-10V-10%-0402
designator C?, comment 10nF
0402 10 nF 10 V ±10 % Tolerance X7R Surface Mount Multilayer Ceramic Capacitor; Manufacturer: AVX Corporation; Manufacturer Part Number: 0402ZC103KAT2A; Manufacturer 1: Kyocera AVX; Case/Package: 0402; Supplier-1: Digikey; Supplier 1: Mouser; Manufacturer Part Number 1: 0402ZC103KAT2A; RoHS: Yes; Category: Ceramic Capacitors; Stock 1: 46520; Pricing 1: 1=0.23, 10=0.14, 50=0.14, 100=0.078, 1000=0.056, 10000=0.043 (USD); ComponentLink1URL: https://datasheet.ciiva.com/206/cx7r-206671.pdf?src-supplier=Digi-Key; ComponentLink1Description: https://datasheet.ciiva.com/206/cx7r-206671.pdf?src-supplier=Digi-Key; ComponentLink2URL: https://datasheet.ciiva.com/7614/cx7r-7614631.pdf?src-supplier=Digi-Key; ComponentLink2Description: https://datasheet.ciiva.com/7614/cx7r-7614631.pdf?src-supplier=Digi-Key; ComponentLink3URL: https://datasheet.ciiva.com/28454/1679506-28454294.pdf?src-supplier=Element14; ComponentLink3Description: https://datasheet.ciiva.com/28454/1679506-28454294.pdf?src-supplier=Element14; ComponentLink4URL: https://datasheet.ciiva.com/22619/1679506-22619800.pdf?src-supplier=Element14; ComponentLink4Description: https://datasheet.ciiva.com/22619/1679506-22619800.pdf?src-supplier=Element14; ComponentLink5URL: https://datasheet.ciiva.com/28620/1679506-28620989.pdf?src-supplier=Element14; ComponentLink5Description: https://datasheet.ciiva.com/28620/1679506-28620989.pdf?src-supplier=Element14; Supplier Part Number 1: 581-0402ZC103KAT2A
footprint CAP_0402 (Capacitor)
pins: 1, 2

## CAP_10nF-10V-10%-0603
designator C?, comment 10nF
Multilayer Ceramic Capacitor, 0.01 uF, 10 V, ± 10%, X7R, 0603 [1608 Metric]; Manufacturer: KEMET; Manufacturer Part Number: C0603C103K8RACTU; Voltage Rating: 10V; Dissipation Factor: 5%; Case/Package: 0603; Supplier-1: Digikey; Supplier 1: Mouser; Manufacturer 1: KEMET; Manufacturer Part Number 1: C0603C103K8RACTU; RoHS: Yes; Category: Ceramic Capacitors; Stock 1: 6134; Pricing 1: 1=0.1, 10=0.034, 50=0.034, 100=0.02, 1000=0.016, 10000=0.011 (USD); Mount: Surface Mount; Case Code (Metric): 1608; Case Code (Imperial): 0603; Dielectric Material: Ceramic; Min Operating Temperature: -55°C; Max Operating Temperature: 125°C; Capacitance: 10nF; Tolerance: 10%; Package Quantity: 1; Packaging: Tape and Reel; Voltage Rating (DC): 10V; Dielectric: X7R; Termination: SMD/SMT; Series: -; Construction: Flat; Length: 1.6mm; Width: 0.031inch; Height: 0.8mm; Thickness: 0.034inch; Lead Pitch: 0.7mm; Depth: 0.8mm; Reach SVHC Compliant: No; ComponentLink1URL: https://datasheet.ciiva.com/49516/1564916-49516523.pdf?src-supplier=Jameco; ComponentLink1Description: https://datasheet.ciiva.com/49516/1564916-49516523.pdf?src-supplier=Jameco; Supplier Part Number 1: 80-C0603C103K8R
footprint CAP_0603 (Capacitor)
pins: 1, 2

## CAP_10uF-10V-10%-0603
designator C?, comment 10uF
Multilayer Ceramic Capacitor, 10 uF, 10 V, ± 10%, X5R, 0603 [1608 Metric]; Manufacturer 1: Samsung; Manufacturer Part Number 1: CL10A106KP8NNNC; Voltage Rating: 10V; ComponentLink1URL: https://datasheet.octopart.com/GRM188R61A106KE69J-Murata-datasheet-66152891.pdf?src-supplier=Future+Electronics; ComponentLink1Description: https://datasheet.octopart.com/GRM188R61A106KE69J-Murata-datasheet-66152891.pdf?src-supplier=Future+Electronics; ComponentLink2URL: http://search.murata.co.jp/Ceramy/image/img/A01X/G101/ENG/GRM188R61A106KE69-01.pdf?src-supplier=Digi-Key; ComponentLink2Description: http://search.murata.co.jp/Ceramy/image/img/A01X/G101/ENG/GRM188R61A106KE69-01.pdf?src-supplier=Digi-Key; Supplier 1: Digi-Key; RoHS: Yes; Category: Ceramic Capacitors; Stock 1: 1782428; Pricing 1: 1=0.19, 10=0.139, 50=0.0786, 100=0.0652, 500=0.04572, 1000=0.03785 (USD); Mount: Surface Mount; Case/Package: 0603; Case Code (Metric): 1608; Case Code (Imperial): 0603; Material: Ceramic; Min Operating Temperature: -55°C; Max Operating Temperature: 85°C; Capacitance: 10uF; Tolerance: 10%; Dielectric: X5R; Package Quantity: 1; Packaging: Tape and Reel; Voltage Rating (DC): 10V; Series: CL; Construction: Flat; Length: 1.6mm; Width: 0.031inch; Height: 0.8mm; Thickness: 0.035inch; Depth: 0.8mm; Radiation Hardening: No; Lead Free: Lead Free; RoHS Compliant: Yes; ComponentLink3URL: https://datasheet.ciiva.com/26877/getdatasheetpartid-359551-26877881.pdf?src-supplier=Verical; ComponentLink3Description: https://datasheet.ciiva.com/26877/getdatasheetpartid-359551-26877881.pdf?src-supplier=Verical; ComponentLink4URL: https://datasheet.ciiva.com/29198/457369-da-01-en-vs-kondensator-0603-29198790.pdf?src-supplier=Conrad; ComponentLink4Description: https://datasheet.ciiva.com/29198/457369-da-01-en-vs-kondensator-0603-29198790.pdf?src-supplier=Conrad; ComponentLink5URL: https://datasheet.ciiva.com/16200/cl05b104kq5nnnc-16200766.pdf?src-supplier=Future+Electronics; ComponentLink5Description: https://datasheet.ciiva.com/16200/cl05b104kq5nnnc-16200766.pdf?src-supplier=Future+Electronics; Supplier Part Number 1: 1276-1192-1-ND
footprint CAP_0603 (Capacitor)
pins: 1, 2

## CAP_10uF-10V-20%-0402
designator C?, comment 10uF
Multilayer Ceramic Capacitor, 10 uF, 10 V, ± 20%, X5R, 0402 [1005 Metric]; Manufacturer Part Number: CL05A106MP5NUNC; Manufacturer: Samsung Electro-Mechanics; Manufacturer 1: Samsung; Voltage Rating: 10V; Case/Package: 0402; Supplier-1: Digikey; Supplier 1: Digi-Key; Manufacturer Part Number 1: CL05A106MP5NUNC; RoHS: Yes; Category: Ceramic Capacitors; Stock 1: 2175928; Pricing 1: 1=0.18, 10=0.121, 50=0.0726, 100=0.0613, 500=0.04192, 1000=0.03708, 2500=0.03546, 5000=0.03224 (USD); Mount: Surface Mount; Case Code (Metric): 1005; Case Code (Imperial): 0402; Min Operating Temperature: -55°C; Max Operating Temperature: 85°C; Package Quantity: 1; Packaging: Tape and Reel; Capacitance: 10uF; Tolerance: 20%; Dielectric: X5R; Series: CL; Length: 1mm; Width: 0.02inch; Thickness: 0.028inch; Depth: 0.5mm; Radiation Hardening: No; Lead Free: Lead Free; RoHS Compliant: Yes; ComponentLink1URL: https://datasheet.ciiva.com/25721/cl05a106mp5nunc-25721584.pdf?src-supplier=Digi-Key; ComponentLink1Description: https://datasheet.ciiva.com/25721/cl05a106mp5nunc-25721584.pdf?src-supplier=Digi-Key; ComponentLink2URL: https://datasheet.ciiva.com/26838/getdatasheetpartid-745310-26838170.pdf?src-supplier=Verical; ComponentLink2Description: https://datasheet.ciiva.com/26838/getdatasheetpartid-745310-26838170.pdf?src-supplier=Verical; Supplier Part Number 1: 1276-1450-1-ND
footprint CAP_0402 (Capacitor)
pins: 1, 2

## CAP_10uF-25V-10%-0603
designator C?, comment 10uF
Multilayer Ceramic Capacitor, 10 uF, 25 V, ± 10%, X5R, 0603 [1608 Metric]; Manufacturer: Murata Electronics; Manufacturer Part Number: GRM188R61E106KA73D; Manufacturer 1: Murata; Case/Package: 0603; Supplier-1: Digikey; Supplier 1: Mouser; Manufacturer Part Number 1: GRM188R61E106KA73D; RoHS: Yes; Category: Ceramic Capacitors; Stock 1: 394422; Pricing 1: 1=0.23, 10=0.105, 50=0.105, 100=0.063, 1000=0.056, 10000=0.043 (USD); ComponentLink1URL: https://datasheet.octopart.com/GRM188R61E106KA73D-Murata-datasheet-149523249.pdf?src-supplier=Newark; ComponentLink1Description: https://datasheet.octopart.com/GRM188R61E106KA73D-Murata-datasheet-149523249.pdf?src-supplier=Newark; ComponentLink2URL: https://search.murata.co.jp/Ceramy/image/img/A01X/G101/ENG/GRM188R61E106KA73-01.pdf?src-supplier=Digi-Key; ComponentLink2Description: https://search.murata.co.jp/Ceramy/image/img/A01X/G101/ENG/GRM188R61E106KA73-01.pdf?src-supplier=Digi-Key; ComponentLink3URL: https://datasheet.octopart.com/GRM188R61E106KA73D-Murata-datasheet-165579666.pdf?src-supplier=TME; ComponentLink3Description: https://datasheet.octopart.com/GRM188R61E106KA73D-Murata-datasheet-165579666.pdf?src-supplier=TME; Supplier Part Number 1: 81-GRM188R61E106KA3D
footprint CAP_0603 (Capacitor)
pins: 1, 2

## CAP_10uF-25V-10%-0805
designator C?, comment 10uF
0805 25 V 10 uF ±20% Tolerance X5R Monolithic Ceramic Chip Capacitor; Manufacturer: Murata Electronics; Manufacturer Part Number: GRM21BR61E106KA73K; Manufacturer 1: Murata; Voltage Rating: 25V; Tolerance: 10%; Case/Package: 0805; Supplier-1: Digikey; Supplier 1: Digi-Key; Manufacturer Part Number 1: GRM21BR61E106KA73K; RoHS: Yes; Category: Ceramic Capacitors; Stock 1: 658247; Pricing 1: 1=0.17, 10=0.117, 50=0.07, 100=0.0591, 500=0.04046, 1000=0.03579, 2500=0.03424, 5000=0.03112 (USD); Mount: Surface Mount; Weight: 0.000335oz; Case Code (Imperial): 0805; Case Code (Metric): 2012; Min Operating Temperature: -55°C; Max Operating Temperature: 85°C; Packaging: Tape and Reel; Capacitance: 10uF; Package Quantity: 10000; Dielectric: X5R; Voltage Rating (DC): 25V; Series: GRM; Length: 0.079inch; Width: 0.049inch; Thickness: 0.055inch; RoHS Compliant: Yes; ComponentLink1URL: http://www.mouser.com/ds/2/281/c02e-2905.pdf?src-supplier=Mouser; ComponentLink1Description: http://www.mouser.com/ds/2/281/c02e-2905.pdf?src-supplier=Mouser; ComponentLink2URL: https://datasheet.octopart.com/GRM21BR61E106KA73K-Murata-datasheet-149523495.pdf?src-supplier=Newark; ComponentLink2Description: https://datasheet.octopart.com/GRM21BR61E106KA73K-Murata-datasheet-149523495.pdf?src-supplier=Newark; ComponentLink3URL: https://datasheet.octopart.com/GRM21BR61E106KA73K-Murata-datasheet-99353849.pdf?src-supplier=Future+Electronics; ComponentLink3Description: https://datasheet.octopart.com/GRM21BR61E106KA73K-Murata-datasheet-99353849.pdf?src-supplier=Future+Electronics; ComponentLink4URL: http://search.murata.co.jp/Ceramy/image/img/A01X/G101/ENG/GRM21BR61E106KA73-01.pdf?src-supplier=Digi-Key; ComponentLink4Description: http://search.murata.co.jp/Ceramy/image/img/A01X/G101/ENG/GRM21BR61E106KA73-01.pdf?src-supplier=Digi-Key; ComponentLink5URL: https://search.murata.co.jp/Ceramy/image/img/A01X/G101/ENG/GRM21BR61E106KA73-01.pdf?src-supplier=Digi-Key; ComponentLink5Description: https://search.murata.co.jp/Ceramy/image/img/A01X/G101/ENG/GRM21BR61E106KA73-01.pdf?src-supplier=Digi-Key; ComponentLink6URL: https://datasheet.octopart.com/GRM21BR61E106KA73K-Murata-datasheet-165579666.pdf?src-supplier=TME; ComponentLink6Description: https://datasheet.octopart.com/GRM21BR61E106KA73K-Murata-datasheet-165579666.pdf?src-supplier=TME; Supplier Part Number 1: 490-16824-1-ND
footprint CAP_0805 (Ceramic Capacitor)
pins: 1, 2

## CAP_12pF-10V-10%-0402
designator C?, comment 12pF
Cap Cer 0402 12PF 10V Ultra Stab; Manufacturer: KEMET; Manufacturer Part Number: C0402C120K8HAC7867; Tolerance: 10%; Case/Package: 0402; Supplier-1: Digikey; Supplier 1: Digi-Key; Manufacturer 1: KEMET; Manufacturer Part Number 1: C0402C120K8HAC7867; RoHS: Yes; Category: Ceramic Capacitors; Pricing 1: 50000=0.00392 (USD); Mount: Surface Mount; Min Operating Temperature: -55°C; Max Operating Temperature: 150°C; Features: High Temperature; Series: SMD Comm X8R HT150C; Packaging: Tape and Reel; Capacitance: 12pF; Voltage Rating: 10V; RoHS Compliant: Yes; Supplier Part Number 1: C0402C120K8HAC7867-ND
footprint CAP_0402 (Capacitor)
pins: 1, 2

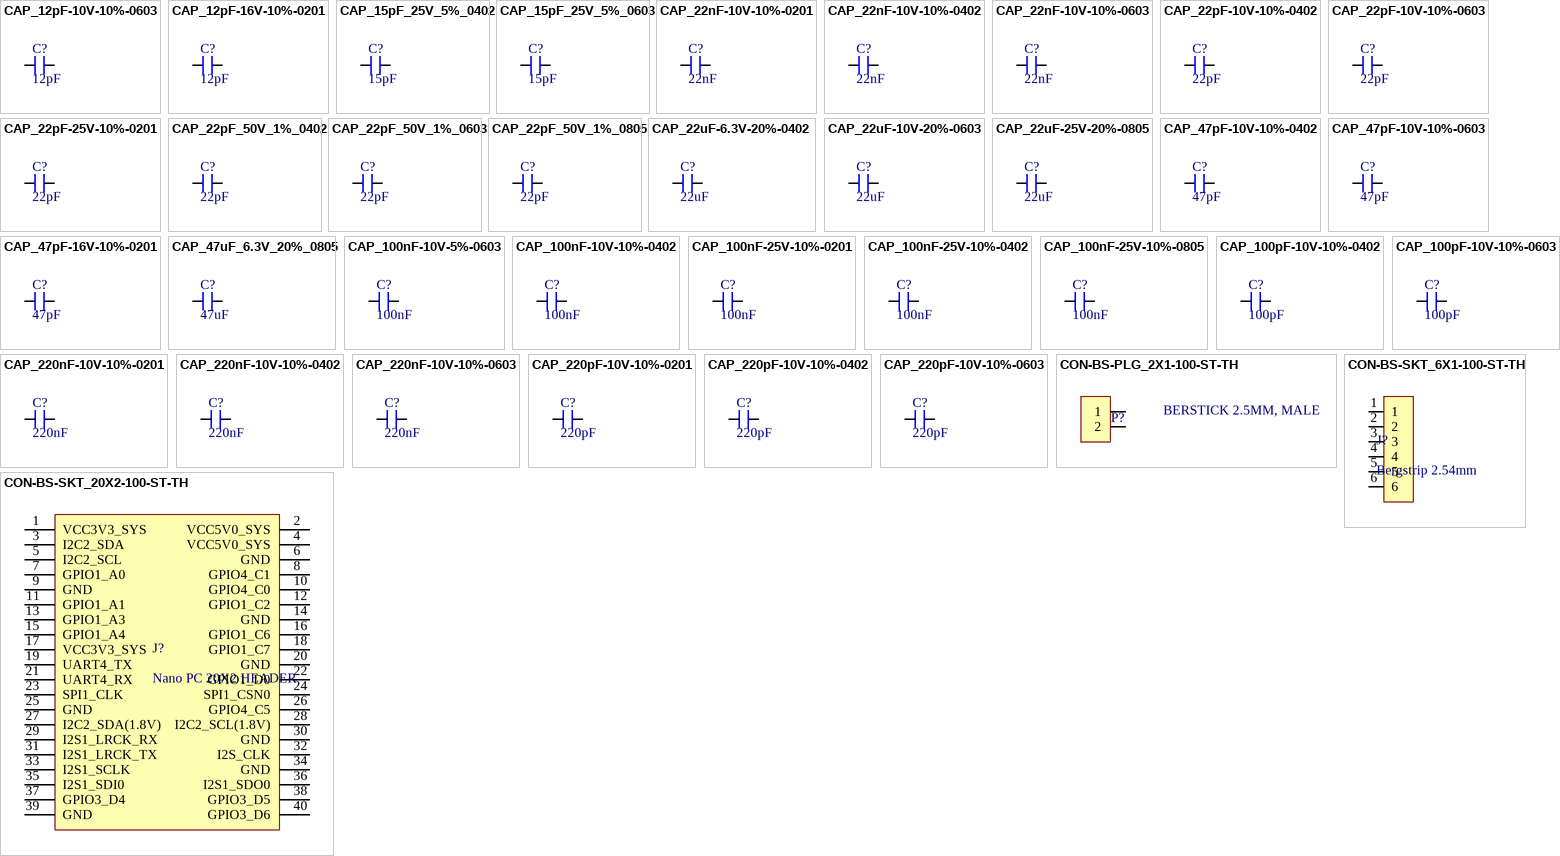
[diagram p1: symbols CAP_12pF-10V-10%-0603 to CON-BS-SKT_20X2-100-ST-TH]

## CAP_12pF-10V-10%-0603
designator C?, comment 12pF
12pF ±10% 10V Ceramic Capacitor X8R 0603 (1608 Metric) /; Manufacturer: KEMET; Manufacturer Part Number: C0603X120K8HAC7867; Case/Package: 0603; Supplier-1: Digikey; Supplier 1: Digi-Key; Manufacturer 1: KEMET; Manufacturer Part Number 1: C0603X120K8HAC7867; RoHS: No; Category: Ceramic Capacitors; Pricing 1: 20000=0.0096 (USD); Supplier Part Number 1: C0603X120K8HAC7867-ND
footprint CAP_0603 (Capacitor)
pins: 1, 2

## CAP_12pF-16V-10%-0201
designator C?, comment 12pF
Capacitor SMD Ceramic 0201 Case 16Vdc C0G (NP0) Dielectric 12pF ±10% ø7T/R"; Manufacturer: AVX Corporation; Manufacturer Part Number: 0201YA120KAT2A; Manufacturer 1: Kyocera AVX; Voltage Rating: 16V; Case/Package: 0201; Supplier-1: Digikey; Supplier 1: Digi-Key; Manufacturer Part Number 1: 0201YA120KAT2A; RoHS: Yes; Category: Ceramic Capacitors; Pricing 1: 15000=0.06696 (USD); Mount: Surface Mount; Number of Pins: 2; Case Code (Imperial): 0201; Case Code (Metric): 0603; Min Operating Temperature: -55°C; Max Operating Temperature: 125°C; Packaging: Tape and Reel; Capacitance: 12pF; Tolerance: 10%; Package Quantity: 15000; Voltage Rating (DC): 16V; Dielectric: C0G; Termination: SMD/SMT; Series: -; Construction: Flat; Length: 0.6mm; Width: 0.3mm; Depth: 0.3mm; Radiation Hardening: No; RoHS Compliant: Yes; ComponentLink1URL: https://datasheet.ciiva.com/13269/ccog-243403-13269830.pdf?src-supplier=Mouser; ComponentLink1Description: https://datasheet.ciiva.com/13269/ccog-243403-13269830.pdf?src-supplier=Mouser; ComponentLink2URL: https://datasheet.ciiva.com/208/ccog-208350.pdf?src-supplier=Digi-Key; ComponentLink2Description: https://datasheet.ciiva.com/208/ccog-208350.pdf?src-supplier=Digi-Key; Supplier Part Number 1: 0201YA120KAT2A-ND
footprint CAP_0201
pins: 1, 2

## CAP_15pF_25V_5%_0402
designator C?, comment 15pF
0402 15 pF 25 V ±5% Tolerance C0G/NP0 Multilayer Ceramic Capacitor; Manufacturer: Yageo; Manufacturer Part Number: CC0402JRNPO8BN150; Supplier 1: Future Electronics; RoHS: Yes; Category: Ceramic Capacitors; Stock 1: 60000; Pricing 1: 10000=0.002, 40000=0.0019, 150000=0.0018, 400000=0.0017, 1000000=0.0016 (USD); ComponentLink1URL: https://datasheet.ciiva.com/13208/upy-gp-np0-16v-to-50v-8-13208552.pdf?src-supplier=Mouser; ComponentLink1Description: https://datasheet.ciiva.com/13208/upy-gp-np0-16v-to-50v-8-13208552.pdf?src-supplier=Mouser; Supplier 2: Digi-Key; Manufacturer 2: Yageo; Manufacturer Part Number 2: CC0402JRNPO8BN150; Stock 2: 198627; Pricing 2: 1=0.1, 10=0.024, 50=0.013, 100=0.0107, 500=0.00764, 1000=0.006, 2500=0.00546, 5000=0.00502 (USD); Supplier Part Number 2: 311-3746-1-ND
footprint CAP_0402
pins: 1, 2

## CAP_15pF_25V_5%_0603
designator C?, comment 15pF
Surface Mount Ceramic Multilayer Capacitor 15pF 5% C0G 25V 0603 Paper T/R; Manufacturer: Yageo; Manufacturer Part Number: CC0603JRNPO8BN150; Supplier 1: Digi-Key; RoHS: Yes; Category: Ceramic Capacitors; Stock 1: 22373; Pricing 1: 1=0.1, 10=0.051, 50=0.028, 100=0.0228, 500=0.0163, 1000=0.0128 (USD); Mount: Surface Mount; Case/Package: 0603; Case Code (Imperial): 0603; Case Code (Metric): 1608; Weight: 7.1E-05oz; Min Operating Temperature: -55°C; Max Operating Temperature: 125°C; Capacitance: 15pF; Voltage Rating (DC): 25V; Tolerance: 5%; Packaging: Tape and Reel; Dielectric: C0G; Termination: SMD/SMT; Voltage Rating: 25V; Series: CC; Length: 0.063inch; Width: 0.031inch; Thickness: 0.035inch; RoHS Compliant: Yes; ComponentLink1URL: http://www.mouser.com/ds/2/447/Yageo_UPY-GP_NP0_16V-to-50V_9-358835.pdf?src-supplier=Mouser; ComponentLink1Description: http://www.mouser.com/ds/2/447/Yageo_UPY-GP_NP0_16V-to-50V_9-358835.pdf?src-supplier=Mouser; ComponentLink2URL: http://www.yageo.com/documents/recent/UPY-GP_NP0_16V-to-50V_16.pdf?src-supplier=Digi-Key; ComponentLink2Description: http://www.yageo.com/documents/recent/UPY-GP_NP0_16V-to-50V_16.pdf?src-supplier=Digi-Key; ComponentLink3URL: https://www.yageo.com/upload/media/product/productsearch/datasheet/mlcc/UPY-GP_NP0_16V-to-50V_18.pdf?src-supplier=Digi-Key; ComponentLink3Description: https://www.yageo.com/upload/media/product/productsearch/datasheet/mlcc/UPY-GP_NP0_16V-to-50V_18.pdf?src-supplier=Digi-Key; ComponentLink4URL: http://www.yageo.com/exep/pages/download/literatures/ProductSelectionGuide%202014_Final_2.pdf?src-supplier=Digi-Key; ComponentLink4Description: http://www.yageo.com/exep/pages/download/literatures/ProductSelectionGuide%202014_Final_2.pdf?src-supplier=Digi-Key; Supplier 2: Digi-Key; Manufacturer 2: Yageo; Manufacturer Part Number 2: CC0603JRNPO8BN150; Stock 2: 22373; Pricing 2: 1=0.1, 10=0.051, 50=0.028, 100=0.0228, 500=0.0163, 1000=0.0128 (USD); Supplier Part Number 2: 311-3951-1-ND
footprint CAP_0603 (Chip Capacitor 0603, 2-Leads, Body 1.68x0.88mm, IPC Medium Density)
pins: 1, 2